# EAGLE library part TSW-114-02-S-S (library con-samtec)
THROUGH-HOLE .025" SQ POST HEADER Source: Samtec TSW.pdf
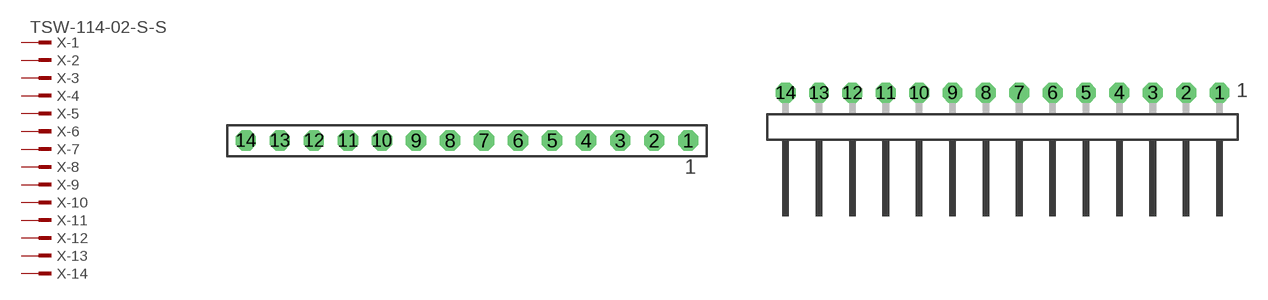
[diagram p232: symbol with the pads of TSW-114-02-S-S; footprints TSW-114-02-S-S, TSW-114-02-S-S-RA]

Designator prefix X; gates -1=MPINV -2=MPIN -3=MPIN -4=MPIN -5=MPIN -6=MPIN -7=MPIN -8=MPIN -9=MPIN -10=MPIN -11=MPIN -12=MPIN -13=MPIN -14=MPIN

## TSW-114-02-S-S (OC_FARNELL: unknown; OC_NEWARK: unknown)  [TSW-114-02-S-S]
1  -1:1  pas
2  -2:1  pas
3  -3:1  pas
4  -4:1  pas
5  -5:1  pas
6  -6:1  pas
7  -7:1  pas
8  -8:1  pas
9  -9:1  pas
10  -10:1  pas
11  -11:1  pas
12  -12:1  pas
13  -13:1  pas
14  -14:1  pas

## TSW-114-02-S-S-RA (OC_FARNELL: unknown; OC_NEWARK: unknown)  [TSW-114-02-S-S-RA]
Pads as for TSW-114-02-S-S

## Footprint TSW-114-02-S-S (pad centres in mm)
THROUGH-HOLE .025" SQ POST HEADER Source: Samtec TSW.pdf
drill 1 pad 1.5 octagon: 1 16.51,0; 2 13.97,0; 3 11.43,0; 4 8.89,0; 5 6.35,0; 6 3.81,0; 7 1.27,0; 8 -1.27,0; 9 -3.81,0; 10 -6.35,0; 11 -8.89,0; 12 -11.43,0; 13 -13.97,0; 14 -16.51,0

## Footprint TSW-114-02-S-S-RA (pad centres in mm)
THROUGH-HOLE .025" SQ POST HEADER Source: Samtec TSW.pdf
drill 1 pad 1.5 octagon: 1 16.51,1.524; 2 13.97,1.524; 3 11.43,1.524; 4 8.89,1.524; 5 6.35,1.524; 6 3.81,1.524; 7 1.27,1.524; 8 -1.27,1.524; 9 -3.81,1.524; 10 -6.35,1.524; 11 -8.89,1.524; 12 -11.43,1.524; 13 -13.97,1.524; 14 -16.51,1.524